# Altium integrated library IR Rectifier - Standard Recovery.IntLib: 457 symbols (part 5 of 5)
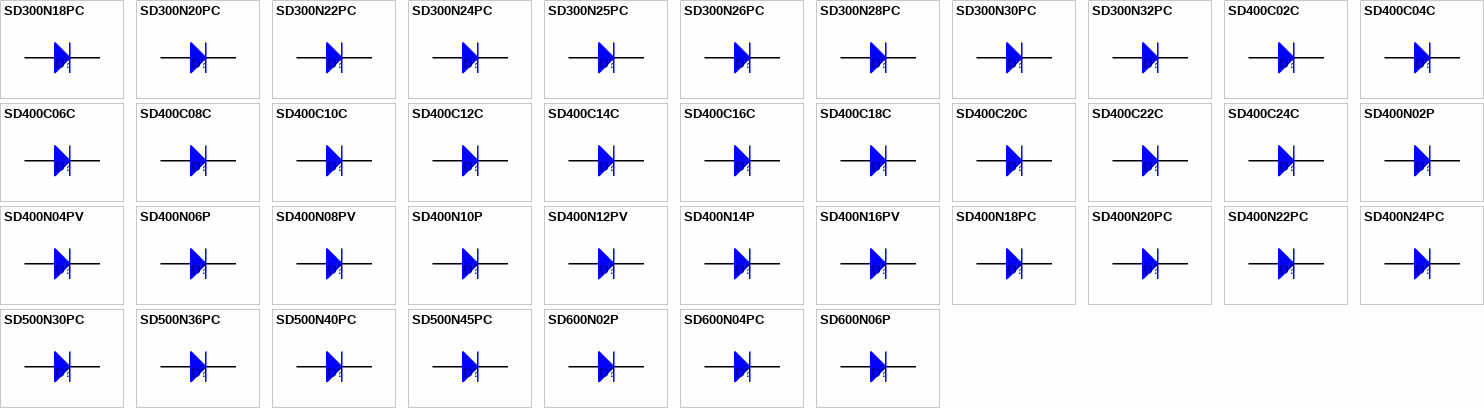
[diagram p15: symbols SD300N18PC to SD600N06P]

## SD300N26PC
designator D?
Standard Recovery Rectifier; Note: No PCB Footprint Available; Published: 8-Jun-2000; LatestRevisionDate: 17-Jul-2002; LatestRevisionNote: Re-released for DXP Platform.; DatasheetDocument: Dec-1989; PackageReference: DO-205AB; Publisher: Altium Limited; ComponentLink1Description: Manufacturer Link; ComponentLink1URL: http://www.irf.com/
simulation model SD300N26PC (DIODE)
signal-integrity model SD300N26PC
pins: 1 A, 2 K

## SD300N28PC
designator D?
Standard Recovery Diode; Note: No PCB Footprint Available; Published: 8-Jun-2000; LatestRevisionDate: 17-Jul-2002; LatestRevisionNote: Re-released for DXP Platform.; DatasheetDocument: Aug-1994; PackageReference: DO-205AB; Publisher: Altium Limited; ComponentLink1Description: Manufacturer Link; ComponentLink1URL: http://www.irf.com/; ComponentLink2Description: Datasheet; ComponentLink2URL: http://www.irf.com/product-info/datasheets/data/sd300n.pdf
simulation model SD300N28PC (DIODE)
signal-integrity model SD300N28PC
pins: 1 A, 2 K

## SD300N30PC
designator D?
Standard Recovery Rectifier; Note: No PCB Footprint Available; Published: 8-Jun-2000; LatestRevisionDate: 17-Jul-2002; LatestRevisionNote: Re-released for DXP Platform.; DatasheetDocument: Dec-1989; PackageReference: DO-205AB; Publisher: Altium Limited; ComponentLink1Description: Manufacturer Link; ComponentLink1URL: http://www.irf.com/
simulation model SD300N30PC (DIODE)
signal-integrity model SD300N30PC
pins: 1 A, 2 K

## SD300N32PC
designator D?
Standard Recovery Diode; Note: No PCB Footprint Available; Published: 8-Jun-2000; LatestRevisionDate: 17-Jul-2002; LatestRevisionNote: Re-released for DXP Platform.; DatasheetDocument: Aug-1994; PackageReference: DO-205AB; Publisher: Altium Limited; ComponentLink1Description: Manufacturer Link; ComponentLink1URL: http://www.irf.com/; ComponentLink2Description: Datasheet; ComponentLink2URL: http://www.irf.com/product-info/datasheets/data/sd300n.pdf
simulation model SD300N32PC (DIODE)
signal-integrity model SD300N32PC
pins: 1 A, 2 K

## SD400C02C
designator D?
Standard Recovery Rectifier; Note: No PCB Footprint Available; Published: 8-Jun-2000; LatestRevisionDate: 17-Jul-2002; LatestRevisionNote: Re-released for DXP Platform.; DatasheetDocument: Dec-1989; PackageReference: DO-200AA; Publisher: Altium Limited; ComponentLink1Description: Manufacturer Link; ComponentLink1URL: http://www.irf.com/; ComponentLink2Description: Datasheet; ComponentLink2URL: http://www.irf.com/product-info/datasheets/data/sd400c-c.pdf
simulation model SD400C02C (DIODE)
signal-integrity model SD400C02C
pins: 1 A, 2 K

## SD400C04C
designator D?
Standard Recovery Diode; Note: No PCB Footprint Available; Published: 8-Jun-2000; LatestRevisionDate: 17-Jul-2002; LatestRevisionNote: Re-released for DXP Platform.; DatasheetDocument: Aug-1994; PackageReference: DO-200AA; Publisher: Altium Limited; ComponentLink1Description: Manufacturer Link; ComponentLink1URL: http://www.irf.com/; ComponentLink2Description: Datasheet; ComponentLink2URL: http://www.irf.com/product-info/datasheets/data/sd400c-c.pdf
simulation model SD400C04C (DIODE)
signal-integrity model SD400C04C
pins: 1 A, 2 K

## SD400C06C
designator D?
Standard Recovery Rectifier; Note: No PCB Footprint Available; Published: 8-Jun-2000; LatestRevisionDate: 17-Jul-2002; LatestRevisionNote: Re-released for DXP Platform.; DatasheetDocument: Dec-1989; PackageReference: DO-200AA; Publisher: Altium Limited; ComponentLink1Description: Manufacturer Link; ComponentLink1URL: http://www.irf.com/; ComponentLink2Description: Datasheet; ComponentLink2URL: http://www.irf.com/product-info/datasheets/data/sd400c-c.pdf
simulation model SD400C06C (DIODE)
signal-integrity model SD400C06C
pins: 1 A, 2 K

## SD400C08C
designator D?
Standard Recovery Diode; Note: No PCB Footprint Available; Published: 8-Jun-2000; LatestRevisionDate: 17-Jul-2002; LatestRevisionNote: Re-released for DXP Platform.; DatasheetDocument: Aug-1994; PackageReference: DO-200AA; Publisher: Altium Limited; ComponentLink1Description: Manufacturer Link; ComponentLink1URL: http://www.irf.com/; ComponentLink2Description: Datasheet; ComponentLink2URL: http://www.irf.com/product-info/datasheets/data/sd400c-c.pdf
simulation model SD400C08C (DIODE)
signal-integrity model SD400C08C
pins: 1 A, 2 K

## SD400C10C
designator D?
Standard Recovery Rectifier; Note: No PCB Footprint Available; Published: 8-Jun-2000; LatestRevisionDate: 17-Jul-2002; LatestRevisionNote: Re-released for DXP Platform.; DatasheetDocument: Dec-1989; PackageReference: DO-200AA; Publisher: Altium Limited; ComponentLink1Description: Manufacturer Link; ComponentLink1URL: http://www.irf.com/; ComponentLink2Description: Datasheet; ComponentLink2URL: http://www.irf.com/product-info/datasheets/data/sd400c-c.pdf
simulation model SD400C10C (DIODE)
signal-integrity model SD400C10C
pins: 1 A, 2 K

## SD400C12C
designator D?
Standard Recovery Diode; Note: No PCB Footprint Available; Published: 8-Jun-2000; LatestRevisionDate: 17-Jul-2002; LatestRevisionNote: Re-released for DXP Platform.; DatasheetDocument: Aug-1994; PackageReference: DO-200AA; Publisher: Altium Limited; ComponentLink1Description: Manufacturer Link; ComponentLink1URL: http://www.irf.com/; ComponentLink2Description: Datasheet; ComponentLink2URL: http://www.irf.com/product-info/datasheets/data/sd400c-c.pdf
simulation model SD400C12C (DIODE)
signal-integrity model SD400C12C
pins: 1 A, 2 K

## SD400C14C
designator D?
Standard Recovery Rectifier; Note: No PCB Footprint Available; Published: 8-Jun-2000; LatestRevisionDate: 17-Jul-2002; LatestRevisionNote: Re-released for DXP Platform.; DatasheetDocument: Dec-1989; PackageReference: DO-200AA; Publisher: Altium Limited; ComponentLink1Description: Manufacturer Link; ComponentLink1URL: http://www.irf.com/; ComponentLink2Description: Datasheet; ComponentLink2URL: http://www.irf.com/product-info/datasheets/data/sd400c-c.pdf
simulation model SD400C14C (DIODE)
signal-integrity model SD400C14C
pins: 1 A, 2 K

## SD400C16C
designator D?
Standard Recovery Diode; Note: No PCB Footprint Available; Published: 8-Jun-2000; LatestRevisionDate: 17-Jul-2002; LatestRevisionNote: Re-released for DXP Platform.; DatasheetDocument: Aug-1994; PackageReference: DO-200AA; Publisher: Altium Limited; ComponentLink1Description: Manufacturer Link; ComponentLink1URL: http://www.irf.com/; ComponentLink2Description: Datasheet; ComponentLink2URL: http://www.irf.com/product-info/datasheets/data/sd400c-c.pdf
simulation model SD400C16C (DIODE)
signal-integrity model SD400C16C
pins: 1 A, 2 K

## SD400C18C
designator D?
Standard Recovery Rectifier; Note: No PCB Footprint Available; Published: 8-Jun-2000; LatestRevisionDate: 17-Jul-2002; LatestRevisionNote: Re-released for DXP Platform.; DatasheetDocument: Dec-1989; PackageReference: DO-200AA; Publisher: Altium Limited; ComponentLink1Description: Manufacturer Link; ComponentLink1URL: http://www.irf.com/; ComponentLink2Description: Datasheet; ComponentLink2URL: http://www.irf.com/product-info/datasheets/data/sd400c-c.pdf
simulation model SD400C18C (DIODE)
signal-integrity model SD400C18C
pins: 1 A, 2 K

## SD400C20C
designator D?
Standard Recovery Diode; Note: No PCB Footprint Available; Published: 8-Jun-2000; LatestRevisionDate: 17-Jul-2002; LatestRevisionNote: Re-released for DXP Platform.; DatasheetDocument: Aug-1994; PackageReference: DO-200AA; Publisher: Altium Limited; ComponentLink1Description: Manufacturer Link; ComponentLink1URL: http://www.irf.com/; ComponentLink2Description: Datasheet; ComponentLink2URL: http://www.irf.com/product-info/datasheets/data/sd400c-c.pdf
simulation model SD400C20C (DIODE)
signal-integrity model SD400C20C
pins: 1 A, 2 K

## SD400C22C
designator D?
Standard Recovery Rectifier; Note: No PCB Footprint Available; Published: 8-Jun-2000; LatestRevisionDate: 17-Jul-2002; LatestRevisionNote: Re-released for DXP Platform.; DatasheetDocument: Dec-1989; PackageReference: DO-200AA; Publisher: Altium Limited; ComponentLink1Description: Manufacturer Link; ComponentLink1URL: http://www.irf.com/; ComponentLink2Description: Datasheet; ComponentLink2URL: http://www.irf.com/product-info/datasheets/data/sd400c-c.pdf
simulation model SD400C22C (DIODE)
signal-integrity model SD400C22C
pins: 1 A, 2 K

## SD400C24C
designator D?
Standard Recovery Rectifier; Note: No PCB Footprint Available; Published: 8-Jun-2000; LatestRevisionDate: 17-Jul-2002; LatestRevisionNote: Re-released for DXP Platform.; DatasheetDocument: Dec-1989; PackageReference: DO-200AA; Publisher: Altium Limited; ComponentLink1Description: Manufacturer Link; ComponentLink1URL: http://www.irf.com/; ComponentLink2Description: Datasheet; ComponentLink2URL: http://www.irf.com/product-info/datasheets/data/sd400c-c.pdf
simulation model SD400C24C (DIODE)
signal-integrity model SD400C24C
pins: 1 A, 2 K

## SD400N02P
designator D?
Standard Recovery Rectifier; Note: No PCB Footprint Available; Published: 8-Jun-2000; LatestRevisionDate: 17-Jul-2002; LatestRevisionNote: Re-released for DXP Platform.; DatasheetDocument: Dec-1989; PackageReference: DO-205AB; Publisher: Altium Limited; ComponentLink1Description: Manufacturer Link; ComponentLink1URL: http://www.irf.com/
simulation model SD400N02P (DIODE)
signal-integrity model SD400N02P
pins: 1 A, 2 K

## SD400N04PV
designator D?
Standard Recovery Diode; Note: No PCB Footprint Available; Published: 8-Jun-2000; LatestRevisionDate: 17-Jul-2002; LatestRevisionNote: Re-released for DXP Platform.; DatasheetDocument: Aug-1994; PackageReference: DO-205AB; Publisher: Altium Limited; ComponentLink1Description: Manufacturer Link; ComponentLink1URL: http://www.irf.com/; ComponentLink2Description: Datasheet; ComponentLink2URL: http://www.irf.com/product-info/datasheets/data/sd400n.pdf
simulation model SD400N04PV (DIODE)
signal-integrity model SD400N04PV
pins: 1 A, 2 K

## SD400N06P
designator D?
Standard Recovery Rectifier; Note: No PCB Footprint Available; Published: 8-Jun-2000; LatestRevisionDate: 17-Jul-2002; LatestRevisionNote: Re-released for DXP Platform.; DatasheetDocument: Dec-1989; PackageReference: DO-205AB; Publisher: Altium Limited; ComponentLink1Description: Manufacturer Link; ComponentLink1URL: http://www.irf.com/
simulation model SD400N06P (DIODE)
signal-integrity model SD400N06P
pins: 1 A, 2 K

## SD400N08PV
designator D?
Standard Recovery Diode; Note: No PCB Footprint Available; Published: 8-Jun-2000; LatestRevisionDate: 17-Jul-2002; LatestRevisionNote: Re-released for DXP Platform.; DatasheetDocument: Aug-1994; PackageReference: DO-205AB; Publisher: Altium Limited; ComponentLink1Description: Manufacturer Link; ComponentLink1URL: http://www.irf.com/; ComponentLink2Description: Datasheet; ComponentLink2URL: http://www.irf.com/product-info/datasheets/data/sd400n.pdf
simulation model SD400N08PV (DIODE)
signal-integrity model SD400N08PV
pins: 1 A, 2 K

## SD400N10P
designator D?
Standard Recovery Rectifier; Note: No PCB Footprint Available; Published: 8-Jun-2000; LatestRevisionDate: 17-Jul-2002; LatestRevisionNote: Re-released for DXP Platform.; DatasheetDocument: Dec-1989; PackageReference: DO-205AB; Publisher: Altium Limited; ComponentLink1Description: Manufacturer Link; ComponentLink1URL: http://www.irf.com/
simulation model SD400N10P (DIODE)
signal-integrity model SD400N10P
pins: 1 A, 2 K

## SD400N12PV
designator D?
Standard Recovery Diode; Note: No PCB Footprint Available; Published: 8-Jun-2000; LatestRevisionDate: 17-Jul-2002; LatestRevisionNote: Re-released for DXP Platform.; DatasheetDocument: Aug-1994; PackageReference: DO-205AB; Publisher: Altium Limited; ComponentLink1Description: Manufacturer Link; ComponentLink1URL: http://www.irf.com/; ComponentLink2Description: Datasheet; ComponentLink2URL: http://www.irf.com/product-info/datasheets/data/sd400n.pdf
simulation model SD400N12PV (DIODE)
signal-integrity model SD400N12PV
pins: 1 A, 2 K

## SD400N14P
designator D?
Standard Recovery Rectifier; Note: No PCB Footprint Available; Published: 8-Jun-2000; LatestRevisionDate: 17-Jul-2002; LatestRevisionNote: Re-released for DXP Platform.; DatasheetDocument: Dec-1989; PackageReference: DO-205AB; Publisher: Altium Limited; ComponentLink1Description: Manufacturer Link; ComponentLink1URL: http://www.irf.com/
simulation model SD400N14P (DIODE)
signal-integrity model SD400N14P
pins: 1 A, 2 K

## SD400N16PV
designator D?
Standard Recovery Diode; Note: No PCB Footprint Available; Published: 8-Jun-2000; LatestRevisionDate: 17-Jul-2002; LatestRevisionNote: Re-released for DXP Platform.; DatasheetDocument: Aug-1994; PackageReference: DO-205AB; Publisher: Altium Limited; ComponentLink1Description: Manufacturer Link; ComponentLink1URL: http://www.irf.com/; ComponentLink2Description: Datasheet; ComponentLink2URL: http://www.irf.com/product-info/datasheets/data/sd400n.pdf
simulation model SD400N16PV (DIODE)
signal-integrity model SD400N16PV
pins: 1 A, 2 K

## SD400N18PC
designator D?
Standard Recovery Rectifier; Note: No PCB Footprint Available; Published: 8-Jun-2000; LatestRevisionDate: 17-Jul-2002; LatestRevisionNote: Re-released for DXP Platform.; DatasheetDocument: Dec-1989; PackageReference: DO-205AB; Publisher: Altium Limited; ComponentLink1Description: Manufacturer Link; ComponentLink1URL: http://www.irf.com/
simulation model SD400N18PC (DIODE)
signal-integrity model SD400N18PC
pins: 1 A, 2 K

## SD400N20PC
designator D?
Standard Recovery Diode; Note: No PCB Footprint Available; Published: 8-Jun-2000; LatestRevisionDate: 17-Jul-2002; LatestRevisionNote: Re-released for DXP Platform.; DatasheetDocument: Aug-1994; PackageReference: DO-205AB; Publisher: Altium Limited; ComponentLink1Description: Manufacturer Link; ComponentLink1URL: http://www.irf.com/; ComponentLink2Description: Datasheet; ComponentLink2URL: http://www.irf.com/product-info/datasheets/data/sd400n.pdf
simulation model SD400N20PC (DIODE)
signal-integrity model SD400N20PC
pins: 1 A, 2 K

## SD400N22PC
designator D?
Standard Recovery Rectifier; Note: No PCB Footprint Available; Published: 8-Jun-2000; LatestRevisionDate: 17-Jul-2002; LatestRevisionNote: Re-released for DXP Platform.; DatasheetDocument: Dec-1989; PackageReference: DO-205AB; Publisher: Altium Limited; ComponentLink1Description: Manufacturer Link; ComponentLink1URL: http://www.irf.com/
simulation model SD400N22PC (DIODE)
signal-integrity model SD400N22PC
pins: 1 A, 2 K

## SD400N24PC
designator D?
Standard Recovery Diode; Note: No PCB Footprint Available; Published: 8-Jun-2000; LatestRevisionDate: 17-Jul-2002; LatestRevisionNote: Re-released for DXP Platform.; DatasheetDocument: Aug-1994; PackageReference: DO-205AB; Publisher: Altium Limited; ComponentLink1Description: Manufacturer Link; ComponentLink1URL: http://www.irf.com/; ComponentLink2Description: Datasheet; ComponentLink2URL: http://www.irf.com/product-info/datasheets/data/sd400n.pdf
simulation model SD400N24PC (DIODE)
signal-integrity model SD400N24PC
pins: 1 A, 2 K

## SD500N30PC
designator D?
Standard Recovery Diode; Note: No PCB Footprint Available; Published: 8-Jun-2000; LatestRevisionDate: 17-Jul-2002; LatestRevisionNote: Re-released for DXP Platform.; DatasheetDocument: Aug-1994; PackageReference: B-8; Publisher: Altium Limited; ComponentLink1Description: Manufacturer Link; ComponentLink1URL: http://www.irf.com/; ComponentLink2Description: Datasheet; ComponentLink2URL: http://www.irf.com/product-info/datasheets/data/sd500n.pdf
simulation model SD500N30PC (DIODE)
signal-integrity model SD500N30PC
pins: 1 A, 2 K

## SD500N36PC
designator D?
Standard Recovery Diode; Note: No PCB Footprint Available; Published: 8-Jun-2000; LatestRevisionDate: 17-Jul-2002; LatestRevisionNote: Re-released for DXP Platform.; DatasheetDocument: Aug-1994; PackageReference: B-8; Publisher: Altium Limited; ComponentLink1Description: Manufacturer Link; ComponentLink1URL: http://www.irf.com/; ComponentLink2Description: Datasheet; ComponentLink2URL: http://www.irf.com/product-info/datasheets/data/sd500n.pdf
simulation model SD500N36PC (DIODE)
signal-integrity model SD500N36PC
pins: 1 A, 2 K

## SD500N40PC
designator D?
Standard Recovery Diode; Note: No PCB Footprint Available; Published: 8-Jun-2000; LatestRevisionDate: 17-Jul-2002; LatestRevisionNote: Re-released for DXP Platform.; DatasheetDocument: Aug-1994; PackageReference: B-8; Publisher: Altium Limited; ComponentLink1Description: Manufacturer Link; ComponentLink1URL: http://www.irf.com/; ComponentLink2Description: Datasheet; ComponentLink2URL: http://www.irf.com/product-info/datasheets/data/sd500n.pdf
simulation model SD500N40PC (DIODE)
signal-integrity model SD500N40PC
pins: 1 A, 2 K

## SD500N45PC
designator D?
Standard Recovery Diode; Note: No PCB Footprint Available; Published: 8-Jun-2000; LatestRevisionDate: 17-Jul-2002; LatestRevisionNote: Re-released for DXP Platform.; DatasheetDocument: Aug-1994; PackageReference: B-8; Publisher: Altium Limited; ComponentLink1Description: Manufacturer Link; ComponentLink1URL: http://www.irf.com/; ComponentLink2Description: Datasheet; ComponentLink2URL: http://www.irf.com/product-info/datasheets/data/sd500n.pdf
simulation model SD500N45PC (DIODE)
signal-integrity model SD500N45PC
pins: 1 A, 2 K

## SD600N02P
designator D?
Standard Recovery Rectifier; Note: No PCB Footprint Available; Published: 8-Jun-2000; LatestRevisionDate: 17-Jul-2002; LatestRevisionNote: Re-released for DXP Platform.; DatasheetDocument: Dec-1989; PackageReference: B-8; Publisher: Altium Limited; ComponentLink1Description: Manufacturer Link; ComponentLink1URL: http://www.irf.com/
simulation model SD600N02P (DIODE)
signal-integrity model SD600N02P
pins: 1 A, 2 K

## SD600N04PC
designator D?
Standard Recovery Diode; Note: No PCB Footprint Available; Published: 8-Jun-2000; LatestRevisionDate: 17-Jul-2002; LatestRevisionNote: Re-released for DXP Platform.; DatasheetDocument: Aug-1994; PackageReference: B-8; Publisher: Altium Limited; ComponentLink1Description: Manufacturer Link; ComponentLink1URL: http://www.irf.com/; ComponentLink2Description: Datasheet; ComponentLink2URL: http://www.irf.com/product-info/datasheets/data/sd600n.pdf
simulation model SD600N04PC (DIODE)
signal-integrity model SD600N04PC
pins: 1 A, 2 K

## SD600N06P
designator D?
Standard Recovery Rectifier; Note: No PCB Footprint Available; Published: 8-Jun-2000; LatestRevisionDate: 17-Jul-2002; LatestRevisionNote: Re-released for DXP Platform.; DatasheetDocument: Dec-1989; PackageReference: B-8; Publisher: Altium Limited; ComponentLink1Description: Manufacturer Link; ComponentLink1URL: http://www.irf.com/
simulation model SD600N06P (DIODE)
signal-integrity model SD600N06P
pins: 1 A, 2 K

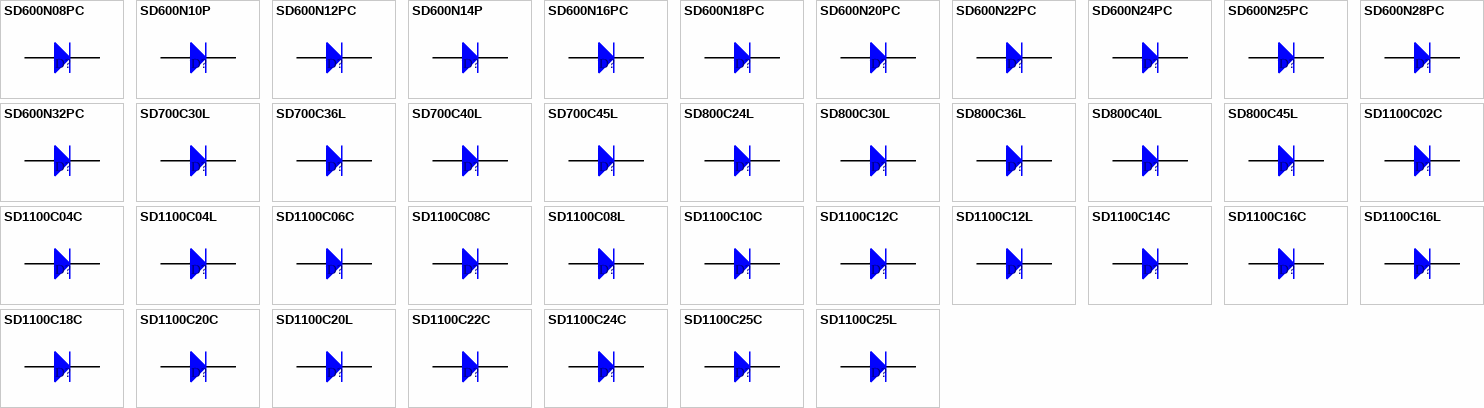
[diagram p10: symbols SD600N08PC to SD1100C25L]

## SD600N08PC
designator D?
Standard Recovery Diode; Note: No PCB Footprint Available; Published: 8-Jun-2000; LatestRevisionDate: 17-Jul-2002; LatestRevisionNote: Re-released for DXP Platform.; DatasheetDocument: Aug-1994; PackageReference: B-8; Publisher: Altium Limited; ComponentLink1Description: Manufacturer Link; ComponentLink1URL: http://www.irf.com/; ComponentLink2Description: Datasheet; ComponentLink2URL: http://www.irf.com/product-info/datasheets/data/sd600n.pdf
simulation model SD600N08PC (DIODE)
signal-integrity model SD600N08PC
pins: 1 A, 2 K

## SD600N10P
designator D?
Standard Recovery Rectifier; Note: No PCB Footprint Available; Published: 8-Jun-2000; LatestRevisionDate: 17-Jul-2002; LatestRevisionNote: Re-released for DXP Platform.; DatasheetDocument: Dec-1989; PackageReference: B-8; Publisher: Altium Limited; ComponentLink1Description: Manufacturer Link; ComponentLink1URL: http://www.irf.com/
simulation model SD600N10P (DIODE)
signal-integrity model SD600N10P
pins: 1 A, 2 K

## SD600N12PC
designator D?
Standard Recovery Diode; Note: No PCB Footprint Available; Published: 8-Jun-2000; LatestRevisionDate: 17-Jul-2002; LatestRevisionNote: Re-released for DXP Platform.; DatasheetDocument: Aug-1994; PackageReference: B-8; Publisher: Altium Limited; ComponentLink1Description: Manufacturer Link; ComponentLink1URL: http://www.irf.com/; ComponentLink2Description: Datasheet; ComponentLink2URL: http://www.irf.com/product-info/datasheets/data/sd600n.pdf
simulation model SD600N12PC (DIODE)
signal-integrity model SD600N12PC
pins: 1 A, 2 K

## SD600N14P
designator D?
Standard Recovery Rectifier; Note: No PCB Footprint Available; Published: 8-Jun-2000; LatestRevisionDate: 17-Jul-2002; LatestRevisionNote: Re-released for DXP Platform.; DatasheetDocument: Dec-1989; PackageReference: B-8; Publisher: Altium Limited; ComponentLink1Description: Manufacturer Link; ComponentLink1URL: http://www.irf.com/
simulation model SD600N14P (DIODE)
signal-integrity model SD600N14P
pins: 1 A, 2 K

## SD600N16PC
designator D?
Standard Recovery Diode; Note: No PCB Footprint Available; Published: 8-Jun-2000; LatestRevisionDate: 17-Jul-2002; LatestRevisionNote: Re-released for DXP Platform.; DatasheetDocument: Aug-1994; PackageReference: B-8; Publisher: Altium Limited; ComponentLink1Description: Manufacturer Link; ComponentLink1URL: http://www.irf.com/; ComponentLink2Description: Datasheet; ComponentLink2URL: http://www.irf.com/product-info/datasheets/data/sd600n.pdf
simulation model SD600N16PC (DIODE)
signal-integrity model SD600N16PC
pins: 1 A, 2 K

## SD600N18PC
designator D?
Standard Recovery Rectifier; Note: No PCB Footprint Available; Published: 8-Jun-2000; LatestRevisionDate: 17-Jul-2002; LatestRevisionNote: Re-released for DXP Platform.; DatasheetDocument: Dec-1989; PackageReference: B-8; Publisher: Altium Limited; ComponentLink1Description: Manufacturer Link; ComponentLink1URL: http://www.irf.com/
simulation model SD600N18PC (DIODE)
signal-integrity model SD600N18PC
pins: 1 A, 2 K

## SD600N20PC
designator D?
Standard Recovery Diode; Note: No PCB Footprint Available; Published: 8-Jun-2000; LatestRevisionDate: 17-Jul-2002; LatestRevisionNote: Re-released for DXP Platform.; DatasheetDocument: Aug-1994; PackageReference: B-8; Publisher: Altium Limited; ComponentLink1Description: Manufacturer Link; ComponentLink1URL: http://www.irf.com/; ComponentLink2Description: Datasheet; ComponentLink2URL: http://www.irf.com/product-info/datasheets/data/sd600n.pdf
simulation model SD600N20PC (DIODE)
signal-integrity model SD600N20PC
pins: 1 A, 2 K

## SD600N22PC
designator D?
Standard Recovery Rectifier; Note: No PCB Footprint Available; Published: 8-Jun-2000; LatestRevisionDate: 17-Jul-2002; LatestRevisionNote: Re-released for DXP Platform.; DatasheetDocument: Dec-1989; PackageReference: B-8; Publisher: Altium Limited; ComponentLink1Description: Manufacturer Link; ComponentLink1URL: http://www.irf.com/
simulation model SD600N22PC (DIODE)
signal-integrity model SD600N22PC
pins: 1 A, 2 K

## SD600N24PC
designator D?
Standard Recovery Rectifier; Note: No PCB Footprint Available; Published: 8-Jun-2000; LatestRevisionDate: 17-Jul-2002; LatestRevisionNote: Re-released for DXP Platform.; DatasheetDocument: Dec-1989; PackageReference: B-8; Publisher: Altium Limited; ComponentLink1Description: Manufacturer Link; ComponentLink1URL: http://www.irf.com/
simulation model SD600N24PC (DIODE)
signal-integrity model SD600N24PC
pins: 1 A, 2 K

## SD600N25PC
designator D?
Standard Recovery Diode; Note: No PCB Footprint Available; Published: 8-Jun-2000; LatestRevisionDate: 17-Jul-2002; LatestRevisionNote: Re-released for DXP Platform.; DatasheetDocument: Aug-1994; PackageReference: B-8; Publisher: Altium Limited; ComponentLink1Description: Manufacturer Link; ComponentLink1URL: http://www.irf.com/; ComponentLink2Description: Datasheet; ComponentLink2URL: http://www.irf.com/product-info/datasheets/data/sd600n.pdf
simulation model SD600N25PC (DIODE)
signal-integrity model SD600N25PC
pins: 1 A, 2 K

## SD600N28PC
designator D?
Standard Recovery Diode; Note: No PCB Footprint Available; Published: 8-Jun-2000; LatestRevisionDate: 17-Jul-2002; LatestRevisionNote: Re-released for DXP Platform.; DatasheetDocument: Aug-1994; PackageReference: B-8; Publisher: Altium Limited; ComponentLink1Description: Manufacturer Link; ComponentLink1URL: http://www.irf.com/; ComponentLink2Description: Datasheet; ComponentLink2URL: http://www.irf.com/product-info/datasheets/data/sd600n.pdf
simulation model SD600N28PC (DIODE)
signal-integrity model SD600N28PC
pins: 1 A, 2 K

## SD600N32PC
designator D?
Standard Recovery Diode; Note: No PCB Footprint Available; Published: 8-Jun-2000; LatestRevisionDate: 17-Jul-2002; LatestRevisionNote: Re-released for DXP Platform.; DatasheetDocument: Aug-1994; PackageReference: B-8; Publisher: Altium Limited; ComponentLink1Description: Manufacturer Link; ComponentLink1URL: http://www.irf.com/; ComponentLink2Description: Datasheet; ComponentLink2URL: http://www.irf.com/product-info/datasheets/data/sd600n.pdf
simulation model SD600N32PC (DIODE)
signal-integrity model SD600N32PC
pins: 1 A, 2 K

## SD700C30L
designator D?
Standard Recovery Diode; Note: No PCB Footprint Available; Published: 8-Jun-2000; LatestRevisionDate: 17-Jul-2002; LatestRevisionNote: Re-released for DXP Platform.; DatasheetDocument: Sep-1994; PackageReference: DO-200AB; Publisher: Altium Limited; ComponentLink1Description: Manufacturer Link; ComponentLink1URL: http://www.irf.com/; ComponentLink2Description: Datasheet; ComponentLink2URL: http://www.irf.com/product-info/datasheets/data/sd700c-l.pdf
simulation model SD700C30L (DIODE)
signal-integrity model SD700C30L
pins: 1 A, 2 K

## SD700C36L
designator D?
Standard Recovery Diode; Note: No PCB Footprint Available; Published: 8-Jun-2000; LatestRevisionDate: 17-Jul-2002; LatestRevisionNote: Re-released for DXP Platform.; DatasheetDocument: Sep-1994; PackageReference: DO-200AB; Publisher: Altium Limited; ComponentLink1Description: Manufacturer Link; ComponentLink1URL: http://www.irf.com/; ComponentLink2Description: Datasheet; ComponentLink2URL: http://www.irf.com/product-info/datasheets/data/sd700c-l.pdf
simulation model SD700C36L (DIODE)
signal-integrity model SD700C36L
pins: 1 A, 2 K

## SD700C40L
designator D?
Standard Recovery Diode; Note: No PCB Footprint Available; Published: 8-Jun-2000; LatestRevisionDate: 17-Jul-2002; LatestRevisionNote: Re-released for DXP Platform.; DatasheetDocument: Sep-1994; PackageReference: DO-200AB; Publisher: Altium Limited; ComponentLink1Description: Manufacturer Link; ComponentLink1URL: http://www.irf.com/; ComponentLink2Description: Datasheet; ComponentLink2URL: http://www.irf.com/product-info/datasheets/data/sd700c-l.pdf
simulation model SD700C40L (DIODE)
signal-integrity model SD700C40L
pins: 1 A, 2 K

## SD700C45L
designator D?
Standard Recovery Diode; Note: No PCB Footprint Available; Published: 8-Jun-2000; LatestRevisionDate: 17-Jul-2002; LatestRevisionNote: Re-released for DXP Platform.; DatasheetDocument: Sep-1994; PackageReference: DO-200AB; Publisher: Altium Limited; ComponentLink1Description: Manufacturer Link; ComponentLink1URL: http://www.irf.com/; ComponentLink2Description: Datasheet; ComponentLink2URL: http://www.irf.com/product-info/datasheets/data/sd700c-l.pdf
simulation model SD700C45L (DIODE)
signal-integrity model SD700C45L
pins: 1 A, 2 K

## SD800C24L
designator D?
Standard Recovery Diode; Note: No PCB Footprint Available; Published: 8-Jun-2000; LatestRevisionDate: 17-Jul-2002; LatestRevisionNote: Re-released for DXP Platform.; DatasheetDocument: Sep-1994; PackageReference: DO-200AB; Publisher: Altium Limited; ComponentLink1Description: Manufacturer Link; ComponentLink1URL: http://www.irf.com/; ComponentLink2Description: Datasheet; ComponentLink2URL: http://www.irf.com/product-info/datasheets/data/sd800c-l.pdf
simulation model SD800C24L (DIODE)
signal-integrity model SD800C24L
pins: 1 A, 2 K

## SD800C30L
designator D?
Standard Recovery Diode; Note: No PCB Footprint Available; Published: 8-Jun-2000; LatestRevisionDate: 17-Jul-2002; LatestRevisionNote: Re-released for DXP Platform.; DatasheetDocument: Sep-1994; PackageReference: DO-200AB; Publisher: Altium Limited; ComponentLink1Description: Manufacturer Link; ComponentLink1URL: http://www.irf.com/; ComponentLink2Description: Datasheet; ComponentLink2URL: http://www.irf.com/product-info/datasheets/data/sd800c-l.pdf
simulation model SD800C30L (DIODE)
signal-integrity model SD800C30L
pins: 1 A, 2 K

## SD800C36L
designator D?
Standard Recovery Diode; Note: No PCB Footprint Available; Published: 8-Jun-2000; LatestRevisionDate: 17-Jul-2002; LatestRevisionNote: Re-released for DXP Platform.; DatasheetDocument: Sep-1994; PackageReference: DO-200AB; Publisher: Altium Limited; ComponentLink1Description: Manufacturer Link; ComponentLink1URL: http://www.irf.com/; ComponentLink2Description: Datasheet; ComponentLink2URL: http://www.irf.com/product-info/datasheets/data/sd800c-l.pdf
simulation model SD800C36L (DIODE)
signal-integrity model SD800C36L
pins: 1 A, 2 K

## SD800C40L
designator D?
Standard Recovery Diode; Note: No PCB Footprint Available; Published: 8-Jun-2000; LatestRevisionDate: 17-Jul-2002; LatestRevisionNote: Re-released for DXP Platform.; DatasheetDocument: Sep-1994; PackageReference: DO-200AB; Publisher: Altium Limited; ComponentLink1Description: Manufacturer Link; ComponentLink1URL: http://www.irf.com/; ComponentLink2Description: Datasheet; ComponentLink2URL: http://www.irf.com/product-info/datasheets/data/sd800c-l.pdf
simulation model SD800C40L (DIODE)
signal-integrity model SD800C40L
pins: 1 A, 2 K

## SD800C45L
designator D?
Standard Recovery Diode; Note: No PCB Footprint Available; Published: 8-Jun-2000; LatestRevisionDate: 17-Jul-2002; LatestRevisionNote: Re-released for DXP Platform.; DatasheetDocument: Sep-1994; PackageReference: DO-200AB; Publisher: Altium Limited; ComponentLink1Description: Manufacturer Link; ComponentLink1URL: http://www.irf.com/; ComponentLink2Description: Datasheet; ComponentLink2URL: http://www.irf.com/product-info/datasheets/data/sd800c-l.pdf
simulation model SD800C45L (DIODE)
signal-integrity model SD800C45L
pins: 1 A, 2 K

## SD1100C02C
designator D?
Standard Recovery Rectifier; Note: No PCB Footprint Available; Published: 8-Jun-2000; LatestRevisionDate: 17-Jul-2002; LatestRevisionNote: Re-released for DXP Platform.; PackageReference: B-43; Publisher: Altium Limited; ComponentLink1Description: Manufacturer Link; ComponentLink1URL: http://www.irf.com/
simulation model SD1100C02C (DIODE)
signal-integrity model SD1100C02C
pins: 1 A, 2 K

## SD1100C04C
designator D?
Standard Recovery Diode; Note: No PCB Footprint Available; Published: 8-Jun-2000; LatestRevisionDate: 17-Jul-2002; LatestRevisionNote: Re-released for DXP Platform.; DatasheetDocument: Feb-1997; PackageReference: B-43; Publisher: Altium Limited; ComponentLink1Description: Manufacturer Link; ComponentLink1URL: http://www.irf.com/; ComponentLink2Description: Datasheet; ComponentLink2URL: http://www.irf.com/product-info/datasheets/data/sd1100c-c.pdf
simulation model SD1100C04C (DIODE)
signal-integrity model SD1100C04C
pins: 1 A, 2 K

## SD1100C04L
designator D?
Standard Recovery Diode; Note: No PCB Footprint Available; Published: 8-Jun-2000; LatestRevisionDate: 17-Jul-2002; LatestRevisionNote: Re-released for DXP Platform.; DatasheetDocument: Feb-1997; PackageReference: DO-200AB; Publisher: Altium Limited; ComponentLink1Description: Manufacturer Link; ComponentLink1URL: http://www.irf.com/; ComponentLink2Description: Datasheet; ComponentLink2URL: http://www.irf.com/product-info/datasheets/data/sd1100c-l.pdf
simulation model SD1100C04L (DIODE)
signal-integrity model SD1100C04L
pins: 1 A, 2 K

## SD1100C06C
designator D?
Standard Recovery Rectifier; Note: No PCB Footprint Available; Published: 8-Jun-2000; LatestRevisionDate: 17-Jul-2002; LatestRevisionNote: Re-released for DXP Platform.; PackageReference: B-43; Publisher: Altium Limited; ComponentLink1Description: Manufacturer Link; ComponentLink1URL: http://www.irf.com/
simulation model SD1100C06C (DIODE)
signal-integrity model SD1100C06C
pins: 1 A, 2 K

## SD1100C08C
designator D?
Standard Recovery Diode; Note: No PCB Footprint Available; Published: 8-Jun-2000; LatestRevisionDate: 17-Jul-2002; LatestRevisionNote: Re-released for DXP Platform.; DatasheetDocument: Feb-1997; PackageReference: B-43; Publisher: Altium Limited; ComponentLink1Description: Manufacturer Link; ComponentLink1URL: http://www.irf.com/; ComponentLink2Description: Datasheet; ComponentLink2URL: http://www.irf.com/product-info/datasheets/data/sd1100c-c.pdf
simulation model SD1100C08C (DIODE)
signal-integrity model SD1100C08C
pins: 1 A, 2 K

## SD1100C08L
designator D?
Standard Recovery Diode; Note: No PCB Footprint Available; Published: 8-Jun-2000; LatestRevisionDate: 17-Jul-2002; LatestRevisionNote: Re-released for DXP Platform.; DatasheetDocument: Feb-1997; PackageReference: DO-200AB; Publisher: Altium Limited; ComponentLink1Description: Manufacturer Link; ComponentLink1URL: http://www.irf.com/; ComponentLink2Description: Datasheet; ComponentLink2URL: http://www.irf.com/product-info/datasheets/data/sd1100c-l.pdf
simulation model SD1100C08L (DIODE)
signal-integrity model SD1100C08L
pins: 1 A, 2 K

## SD1100C10C
designator D?
Standard Recovery Rectifier; Note: No PCB Footprint Available; Published: 8-Jun-2000; LatestRevisionDate: 17-Jul-2002; LatestRevisionNote: Re-released for DXP Platform.; PackageReference: B-43; Publisher: Altium Limited; ComponentLink1Description: Manufacturer Link; ComponentLink1URL: http://www.irf.com/
simulation model SD1100C10C (DIODE)
signal-integrity model SD1100C10C
pins: 1 A, 2 K

## SD1100C12C
designator D?
Standard Recovery Diode; Note: No PCB Footprint Available; Published: 8-Jun-2000; LatestRevisionDate: 17-Jul-2002; LatestRevisionNote: Re-released for DXP Platform.; DatasheetDocument: Feb-1997; PackageReference: B-43; Publisher: Altium Limited; ComponentLink1Description: Manufacturer Link; ComponentLink1URL: http://www.irf.com/; ComponentLink2Description: Datasheet; ComponentLink2URL: http://www.irf.com/product-info/datasheets/data/sd1100c-c.pdf
simulation model SD1100C12C (DIODE)
signal-integrity model SD1100C12C
pins: 1 A, 2 K

## SD1100C12L
designator D?
Standard Recovery Diode; Note: No PCB Footprint Available; Published: 8-Jun-2000; LatestRevisionDate: 17-Jul-2002; LatestRevisionNote: Re-released for DXP Platform.; DatasheetDocument: Feb-1997; PackageReference: DO-200AB; Publisher: Altium Limited; ComponentLink1Description: Manufacturer Link; ComponentLink1URL: http://www.irf.com/; ComponentLink2Description: Datasheet; ComponentLink2URL: http://www.irf.com/product-info/datasheets/data/sd1100c-l.pdf
simulation model SD1100C12L (DIODE)
signal-integrity model SD1100C12L
pins: 1 A, 2 K

## SD1100C14C
designator D?
Standard Recovery Rectifier; Note: No PCB Footprint Available; Published: 8-Jun-2000; LatestRevisionDate: 17-Jul-2002; LatestRevisionNote: Re-released for DXP Platform.; DatasheetDocument: Dec-1989; PackageReference: B-43; Publisher: Altium Limited; ComponentLink1Description: Manufacturer Link; ComponentLink1URL: http://www.irf.com/
simulation model SD1100C14C (DIODE)
signal-integrity model SD1100C14C
pins: 1 A, 2 K

## SD1100C16C
designator D?
Standard Recovery Diode; Note: No PCB Footprint Available; Published: 8-Jun-2000; LatestRevisionDate: 17-Jul-2002; LatestRevisionNote: Re-released for DXP Platform.; DatasheetDocument: Feb-1997; PackageReference: B-43; Publisher: Altium Limited; ComponentLink1Description: Manufacturer Link; ComponentLink1URL: http://www.irf.com/; ComponentLink2Description: Datasheet; ComponentLink2URL: http://www.irf.com/product-info/datasheets/data/sd1100c-c.pdf
simulation model SD1100C16C (DIODE)
signal-integrity model SD1100C16C
pins: 1 A, 2 K

## SD1100C16L
designator D?
Standard Recovery Diode; Note: No PCB Footprint Available; Published: 8-Jun-2000; LatestRevisionDate: 17-Jul-2002; LatestRevisionNote: Re-released for DXP Platform.; DatasheetDocument: Feb-1997; PackageReference: DO-200AB; Publisher: Altium Limited; ComponentLink1Description: Manufacturer Link; ComponentLink1URL: http://www.irf.com/; ComponentLink2Description: Datasheet; ComponentLink2URL: http://www.irf.com/product-info/datasheets/data/sd1100c-l.pdf
simulation model SD1100C16L (DIODE)
signal-integrity model SD1100C16L
pins: 1 A, 2 K

## SD1100C18C
designator D?
Standard Recovery Rectifier; Note: No PCB Footprint Available; Published: 8-Jun-2000; LatestRevisionDate: 17-Jul-2002; LatestRevisionNote: Re-released for DXP Platform.; PackageReference: B-43; Publisher: Altium Limited; ComponentLink1Description: Manufacturer Link; ComponentLink1URL: http://www.irf.com/
simulation model SD1100C18C (DIODE)
signal-integrity model SD1100C18C
pins: 1 A, 2 K

## SD1100C20C
designator D?
Standard Recovery Diode; Note: No PCB Footprint Available; Published: 8-Jun-2000; LatestRevisionDate: 17-Jul-2002; LatestRevisionNote: Re-released for DXP Platform.; DatasheetDocument: Feb-1997; PackageReference: B-43; Publisher: Altium Limited; ComponentLink1Description: Manufacturer Link; ComponentLink1URL: http://www.irf.com/; ComponentLink2Description: Datasheet; ComponentLink2URL: http://www.irf.com/product-info/datasheets/data/sd1100c-c.pdf
simulation model SD1100C20C (DIODE)
signal-integrity model SD1100C20C
pins: 1 A, 2 K

## SD1100C20L
designator D?
Standard Recovery Diode; Note: No PCB Footprint Available; Published: 8-Jun-2000; LatestRevisionDate: 17-Jul-2002; LatestRevisionNote: Re-released for DXP Platform.; DatasheetDocument: Feb-1997; PackageReference: DO-200AB; Publisher: Altium Limited; ComponentLink1Description: Manufacturer Link; ComponentLink1URL: http://www.irf.com/; ComponentLink2Description: Datasheet; ComponentLink2URL: http://www.irf.com/product-info/datasheets/data/sd1100c-l.pdf
simulation model SD1100C20L (DIODE)
signal-integrity model SD1100C20L
pins: 1 A, 2 K

## SD1100C22C
designator D?
Standard Recovery Rectifier; Note: No PCB Footprint Available; Published: 8-Jun-2000; LatestRevisionDate: 17-Jul-2002; LatestRevisionNote: Re-released for DXP Platform.; PackageReference: B-43; Publisher: Altium Limited; ComponentLink1Description: Manufacturer Link; ComponentLink1URL: http://www.irf.com/
simulation model SD1100C22C (DIODE)
signal-integrity model SD1100C22C
pins: 1 A, 2 K

## SD1100C24C
designator D?
Standard Recovery Rectifier; Note: No PCB Footprint Available; Published: 8-Jun-2000; LatestRevisionDate: 17-Jul-2002; LatestRevisionNote: Re-released for DXP Platform.; PackageReference: B-43; Publisher: Altium Limited; ComponentLink1Description: Manufacturer Link; ComponentLink1URL: http://www.irf.com/
simulation model SD1100C24C (DIODE)
signal-integrity model SD1100C24C
pins: 1 A, 2 K

## SD1100C25C
designator D?
Standard Recovery Diode; Note: No PCB Footprint Available; Published: 8-Jun-2000; LatestRevisionDate: 17-Jul-2002; LatestRevisionNote: Re-released for DXP Platform.; DatasheetDocument: Feb-1997; PackageReference: B-43; Publisher: Altium Limited; ComponentLink1Description: Manufacturer Link; ComponentLink1URL: http://www.irf.com/; ComponentLink2Description: Datasheet; ComponentLink2URL: http://www.irf.com/product-info/datasheets/data/sd1100c-c.pdf
simulation model SD1100C25C (DIODE)
signal-integrity model SD1100C25C
pins: 1 A, 2 K

## SD1100C25L
designator D?
Standard Recovery Diode; Note: No PCB Footprint Available; Published: 8-Jun-2000; LatestRevisionDate: 17-Jul-2002; LatestRevisionNote: Re-released for DXP Platform.; DatasheetDocument: Feb-1997; PackageReference: DO-200AB; Publisher: Altium Limited; ComponentLink1Description: Manufacturer Link; ComponentLink1URL: http://www.irf.com/; ComponentLink2Description: Datasheet; ComponentLink2URL: http://www.irf.com/product-info/datasheets/data/sd1100c-l.pdf
simulation model SD1100C25L (DIODE)
signal-integrity model SD1100C25L
pins: 1 A, 2 K

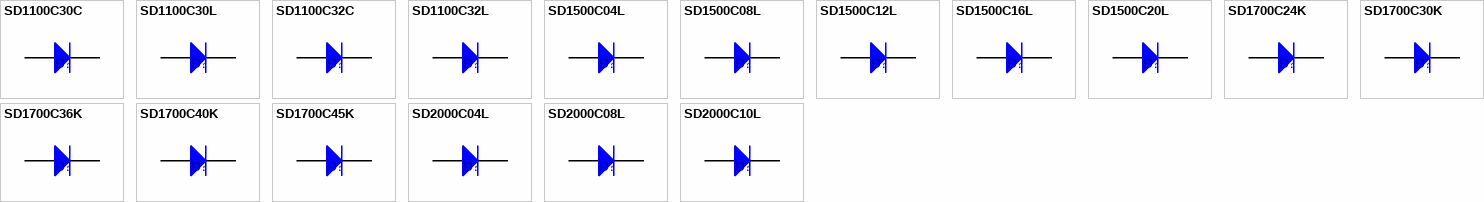
[diagram p11: symbols SD1100C30C to SD2000C10L]

## SD1100C30C
designator D?
Standard Recovery Diode; Note: No PCB Footprint Available; Published: 8-Jun-2000; LatestRevisionDate: 17-Jul-2002; LatestRevisionNote: Re-released for DXP Platform.; DatasheetDocument: Feb-1997; PackageReference: B-43; Publisher: Altium Limited; ComponentLink1Description: Manufacturer Link; ComponentLink1URL: http://www.irf.com/; ComponentLink2Description: Datasheet; ComponentLink2URL: http://www.irf.com/product-info/datasheets/data/sd1100c-c.pdf
simulation model SD1100C30C (DIODE)
signal-integrity model SD1100C30C
pins: 1 A, 2 K

## SD1100C30L
designator D?
Standard Recovery Diode; Note: No PCB Footprint Available; Published: 8-Jun-2000; LatestRevisionDate: 17-Jul-2002; LatestRevisionNote: Re-released for DXP Platform.; DatasheetDocument: Feb-1997; PackageReference: DO-200AB; Publisher: Altium Limited; ComponentLink1Description: Manufacturer Link; ComponentLink1URL: http://www.irf.com/; ComponentLink2Description: Datasheet; ComponentLink2URL: http://www.irf.com/product-info/datasheets/data/sd1100c-l.pdf
simulation model SD1100C30L (DIODE)
signal-integrity model SD1100C30L
pins: 1 A, 2 K

## SD1100C32C
designator D?
Standard Recovery Diode; Note: No PCB Footprint Available; Published: 8-Jun-2000; LatestRevisionDate: 17-Jul-2002; LatestRevisionNote: Re-released for DXP Platform.; DatasheetDocument: Feb-1997; PackageReference: B-43; Publisher: Altium Limited; ComponentLink1Description: Manufacturer Link; ComponentLink1URL: http://www.irf.com/; ComponentLink2Description: Datasheet; ComponentLink2URL: http://www.irf.com/product-info/datasheets/data/sd1100c-c.pdf
simulation model SD1100C32C (DIODE)
signal-integrity model SD1100C32C
pins: 1 A, 2 K

## SD1100C32L
designator D?
Standard Recovery Diode; Note: No PCB Footprint Available; Published: 8-Jun-2000; LatestRevisionDate: 17-Jul-2002; LatestRevisionNote: Re-released for DXP Platform.; DatasheetDocument: Feb-1997; PackageReference: DO-200AB; Publisher: Altium Limited; ComponentLink1Description: Manufacturer Link; ComponentLink1URL: http://www.irf.com/; ComponentLink2Description: Datasheet; ComponentLink2URL: http://www.irf.com/product-info/datasheets/data/sd1100c-l.pdf
simulation model SD1100C32L (DIODE)
signal-integrity model SD1100C32L
pins: 1 A, 2 K

## SD1500C04L
designator D?
Standard Recovery Diode; Note: No PCB Footprint Available; Published: 8-Jun-2000; LatestRevisionDate: 17-Jul-2002; LatestRevisionNote: Re-released for DXP Platform.; DatasheetDocument: Aug-1994; PackageReference: DO-200AB; Publisher: Altium Limited; ComponentLink1Description: Manufacturer Link; ComponentLink1URL: http://www.irf.com/; ComponentLink2Description: Datasheet; ComponentLink2URL: http://www.irf.com/product-info/datasheets/data/sd1500c-l.pdf
simulation model SD1500C04L (DIODE)
signal-integrity model SD1500C04L
pins: 1 A, 2 K

## SD1500C08L
designator D?
Standard Recovery Diode; Note: No PCB Footprint Available; Published: 8-Jun-2000; LatestRevisionDate: 17-Jul-2002; LatestRevisionNote: Re-released for DXP Platform.; DatasheetDocument: Aug-1994; PackageReference: DO-200AB; Publisher: Altium Limited; ComponentLink1Description: Manufacturer Link; ComponentLink1URL: http://www.irf.com/; ComponentLink2Description: Datasheet; ComponentLink2URL: http://www.irf.com/product-info/datasheets/data/sd1500c-l.pdf
simulation model SD1500C08L (DIODE)
signal-integrity model SD1500C08L
pins: 1 A, 2 K

## SD1500C12L
designator D?
Standard Recovery Diode; Note: No PCB Footprint Available; Published: 8-Jun-2000; LatestRevisionDate: 17-Jul-2002; LatestRevisionNote: Re-released for DXP Platform.; DatasheetDocument: Aug-1994; PackageReference: DO-200AB; Publisher: Altium Limited; ComponentLink1Description: Manufacturer Link; ComponentLink1URL: http://www.irf.com/; ComponentLink2Description: Datasheet; ComponentLink2URL: http://www.irf.com/product-info/datasheets/data/sd1500c-l.pdf
simulation model SD1500C12L (DIODE)
signal-integrity model SD1500C12L
pins: 1 A, 2 K

## SD1500C16L
designator D?
Standard Recovery Diode; Note: No PCB Footprint Available; Published: 8-Jun-2000; LatestRevisionDate: 17-Jul-2002; LatestRevisionNote: Re-released for DXP Platform.; DatasheetDocument: Aug-1994; PackageReference: DO-200AB; Publisher: Altium Limited; ComponentLink1Description: Manufacturer Link; ComponentLink1URL: http://www.irf.com/; ComponentLink2Description: Datasheet; ComponentLink2URL: http://www.irf.com/product-info/datasheets/data/sd1500c-l.pdf
simulation model SD1500C16L (DIODE)
signal-integrity model SD1500C16L
pins: 1 A, 2 K

## SD1500C20L
designator D?
Standard Recovery Diode; Note: No PCB Footprint Available; Published: 8-Jun-2000; LatestRevisionDate: 17-Jul-2002; LatestRevisionNote: Re-released for DXP Platform.; DatasheetDocument: Aug-1994; PackageReference: DO-200AB; Publisher: Altium Limited; ComponentLink1Description: Manufacturer Link; ComponentLink1URL: http://www.irf.com/; ComponentLink2Description: Datasheet; ComponentLink2URL: http://www.irf.com/product-info/datasheets/data/sd1500c-l.pdf
simulation model SD1500C20L (DIODE)
signal-integrity model SD1500C20L
pins: 1 A, 2 K

## SD1700C24K
designator D?
Standard Recovery Diode; Note: No PCB Footprint Available; Published: 8-Jun-2000; LatestRevisionDate: 17-Jul-2002; LatestRevisionNote: Re-released for DXP Platform.; DatasheetDocument: Aug-1994; PackageReference: DO-200AC; Publisher: Altium Limited; ComponentLink1Description: Manufacturer Link; ComponentLink1URL: http://www.irf.com/; ComponentLink2Description: Datasheet; ComponentLink2URL: http://www.irf.com/product-info/datasheets/data/sd1700c-k.pdf
simulation model SD1700C24K (DIODE)
signal-integrity model SD1700C24K
pins: 1 A, 2 K

## SD1700C30K
designator D?
Standard Recovery Diode; Note: No PCB Footprint Available; Published: 8-Jun-2000; LatestRevisionDate: 17-Jul-2002; LatestRevisionNote: Re-released for DXP Platform.; DatasheetDocument: Aug-1994; PackageReference: DO-200AC; Publisher: Altium Limited; ComponentLink1Description: Manufacturer Link; ComponentLink1URL: http://www.irf.com/; ComponentLink2Description: Datasheet; ComponentLink2URL: http://www.irf.com/product-info/datasheets/data/sd1700c-k.pdf
simulation model SD1700C30K (DIODE)
signal-integrity model SD1700C30K
pins: 1 A, 2 K

## SD1700C36K
designator D?
Standard Recovery Diode; Note: No PCB Footprint Available; Published: 8-Jun-2000; LatestRevisionDate: 17-Jul-2002; LatestRevisionNote: Re-released for DXP Platform.; DatasheetDocument: Aug-1994; PackageReference: DO-200AC; Publisher: Altium Limited; ComponentLink1Description: Manufacturer Link; ComponentLink1URL: http://www.irf.com/; ComponentLink2Description: Datasheet; ComponentLink2URL: http://www.irf.com/product-info/datasheets/data/sd1700c-k.pdf
simulation model SD1700C36K (DIODE)
signal-integrity model SD1700C36K
pins: 1 A, 2 K

## SD1700C40K
designator D?
Standard Recovery Diode; Note: No PCB Footprint Available; Published: 8-Jun-2000; LatestRevisionDate: 17-Jul-2002; LatestRevisionNote: Re-released for DXP Platform.; DatasheetDocument: Aug-1994; PackageReference: DO-200AC; Publisher: Altium Limited; ComponentLink1Description: Manufacturer Link; ComponentLink1URL: http://www.irf.com/; ComponentLink2Description: Datasheet; ComponentLink2URL: http://www.irf.com/product-info/datasheets/data/sd1700c-k.pdf
simulation model SD1700C40K (DIODE)
signal-integrity model SD1700C40K
pins: 1 A, 2 K

## SD1700C45K
designator D?
Standard Recovery Diode; Note: No PCB Footprint Available; Published: 8-Jun-2000; LatestRevisionDate: 17-Jul-2002; LatestRevisionNote: Re-released for DXP Platform.; DatasheetDocument: Aug-1994; PackageReference: DO-200AC; Publisher: Altium Limited; ComponentLink1Description: Manufacturer Link; ComponentLink1URL: http://www.irf.com/; ComponentLink2Description: Datasheet; ComponentLink2URL: http://www.irf.com/product-info/datasheets/data/sd1700c-k.pdf
simulation model SD1700C45K (DIODE)
signal-integrity model SD1700C45K
pins: 1 A, 2 K

## SD2000C04L
designator D?
Standard Recovery Diode; Note: No PCB Footprint Available; Published: 8-Jun-2000; LatestRevisionDate: 17-Jul-2002; LatestRevisionNote: Re-released for DXP Platform.; DatasheetDocument: Aug-1994; PackageReference: DO-200AB; Publisher: Altium Limited; ComponentLink1Description: Manufacturer Link; ComponentLink1URL: http://www.irf.com/; ComponentLink2Description: Datasheet; ComponentLink2URL: http://www.irf.com/product-info/datasheets/data/sd2000c-l.pdf
simulation model SD2000C04L (DIODE)
signal-integrity model SD2000C04L
pins: 1 A, 2 K

## SD2000C08L
designator D?
Standard Recovery Diode; Note: No PCB Footprint Available; Published: 8-Jun-2000; LatestRevisionDate: 17-Jul-2002; LatestRevisionNote: Re-released for DXP Platform.; DatasheetDocument: Aug-1994; PackageReference: DO-200AB; Publisher: Altium Limited; ComponentLink1Description: Manufacturer Link; ComponentLink1URL: http://www.irf.com/; ComponentLink2Description: Datasheet; ComponentLink2URL: http://www.irf.com/product-info/datasheets/data/sd2000c-l.pdf
simulation model SD2000C08L (DIODE)
signal-integrity model SD2000C08L
pins: 1 A, 2 K

## SD2000C10L
designator D?
Standard Recovery Diode; Note: No PCB Footprint Available; Published: 8-Jun-2000; LatestRevisionDate: 17-Jul-2002; LatestRevisionNote: Re-released for DXP Platform.; DatasheetDocument: Aug-1994; PackageReference: DO-200AB; Publisher: Altium Limited; ComponentLink1Description: Manufacturer Link; ComponentLink1URL: http://www.irf.com/; ComponentLink2Description: Datasheet; ComponentLink2URL: http://www.irf.com/product-info/datasheets/data/sd2000c-l.pdf
simulation model SD2000C10L (DIODE)
signal-integrity model SD2000C10L
pins: 1 A, 2 K